# EAGLE library part DF12C(*)-40DS-0.5V (library hirose-df12)
0.5mm Pitch SMT Board to Board Connector Source: http://www.hirose.co.jp/catalogj_hp/jd_DF12_20131205.pdf http://www.hirose.co.jp/cataloge_hp/en_DF12_20130411.pdf
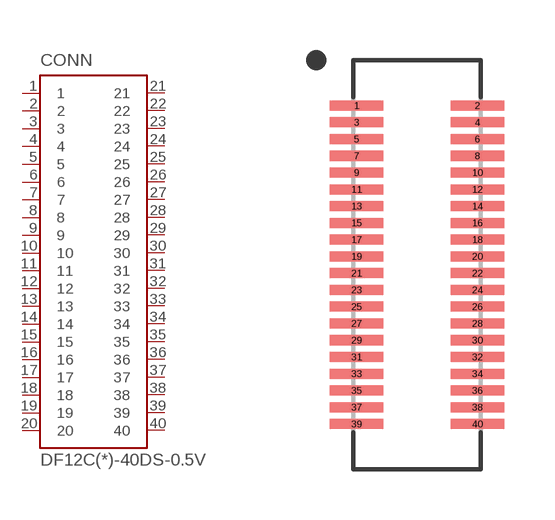
[diagram p76: symbol with the pads of DF12C(*)-40DS-0.5V; footprint DF12C(*)-40DS-0.5V]

Designator prefix CONN

## DF12C(3.0)-40DS-0.5V, DF12C(3.5)-40DS-0.5V, DF12C(4.0)-40DS-0.5V, DF12C(5.0)-40DS-0.5V  [DF12C(*)-40DS-0.5V]
1  1
2  2
3  3
4  4
5  5
6  6
7  7
8  8
9  9
10  10
11  11
12  12
13  13
14  14
15  15
16  16
17  17
18  18
19  19
20  20
21  21
22  22
23  23
24  24
25  25
26  26
27  27
28  28
29  29
30  30
31  31
32  32
33  33
34  34
35  35
36  36
37  37
38  38
39  39
40  40

## Footprint DF12C(*)-40DS-0.5V (pad centres in mm)
smd 1.6 x 0.3: 1 -1.8,4.75; 2 1.8,4.75; 3 -1.8,4.25; 4 1.8,4.25; 5 -1.8,3.75; 6 1.8,3.75; 7 -1.8,3.25; 8 1.8,3.25; 9 -1.8,2.75; 10 1.8,2.75; 11 -1.8,2.25; 12 1.8,2.25; 13 -1.8,1.75; 14 1.8,1.75; 15 -1.8,1.25; 16 1.8,1.25; 17 -1.8,0.75; 18 1.8,0.75; 19 -1.8,0.25; 20 1.8,0.25; 21 -1.8,-0.25; 22 1.8,-0.25; 23 -1.8,-0.75; 24 1.8,-0.75; 25 -1.8,-1.25; 26 1.8,-1.25; 27 -1.8,-1.75; 28 1.8,-1.75; 29 -1.8,-2.25; 30 1.8,-2.25; 31 -1.8,-2.75; 32 1.8,-2.75; 33 -1.8,-3.25; 34 1.8,-3.25; 35 -1.8,-3.75; 36 1.8,-3.75; 37 -1.8,-4.25; 38 1.8,-4.25; 39 -1.8,-4.75; 40 1.8,-4.75